# EAGLE library part BA6209N (library MOTORDRV)
Reversible Motor Driver ROHM
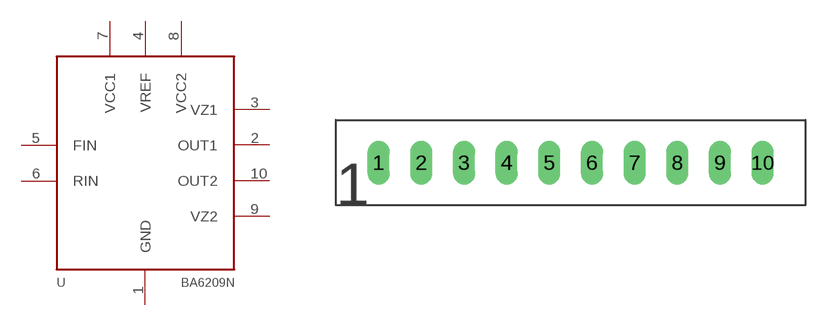
[diagram p4: symbol with the pads of SIP10; footprint SIP10]

Designator prefix U

## BA6209N  [SIP10]
1  GND  pwr
2  OUT1  out
3  VZ1  pas
4  VREF  pwr
5  FIN  in
6  RIN  in
7  VCC1  pwr
8  VCC2  pwr
9  VZ2  pas
10  OUT2  out

## Footprint SIP10 (pad centres in mm)
SIP10 PACKAGE
drill 0.8 long: 1 -12.7,0; 2 -10.16,0; 3 -7.62,0; 4 -5.08,0; 5 -2.54,0; 6 0,0; 7 2.54,0; 8 5.08,0; 9 7.62,0; 10 10.16,0